# EAGLE library part THERMISTOR_EXPANSION (library Battery)
Thermistor Expansion for Orion BMS 2
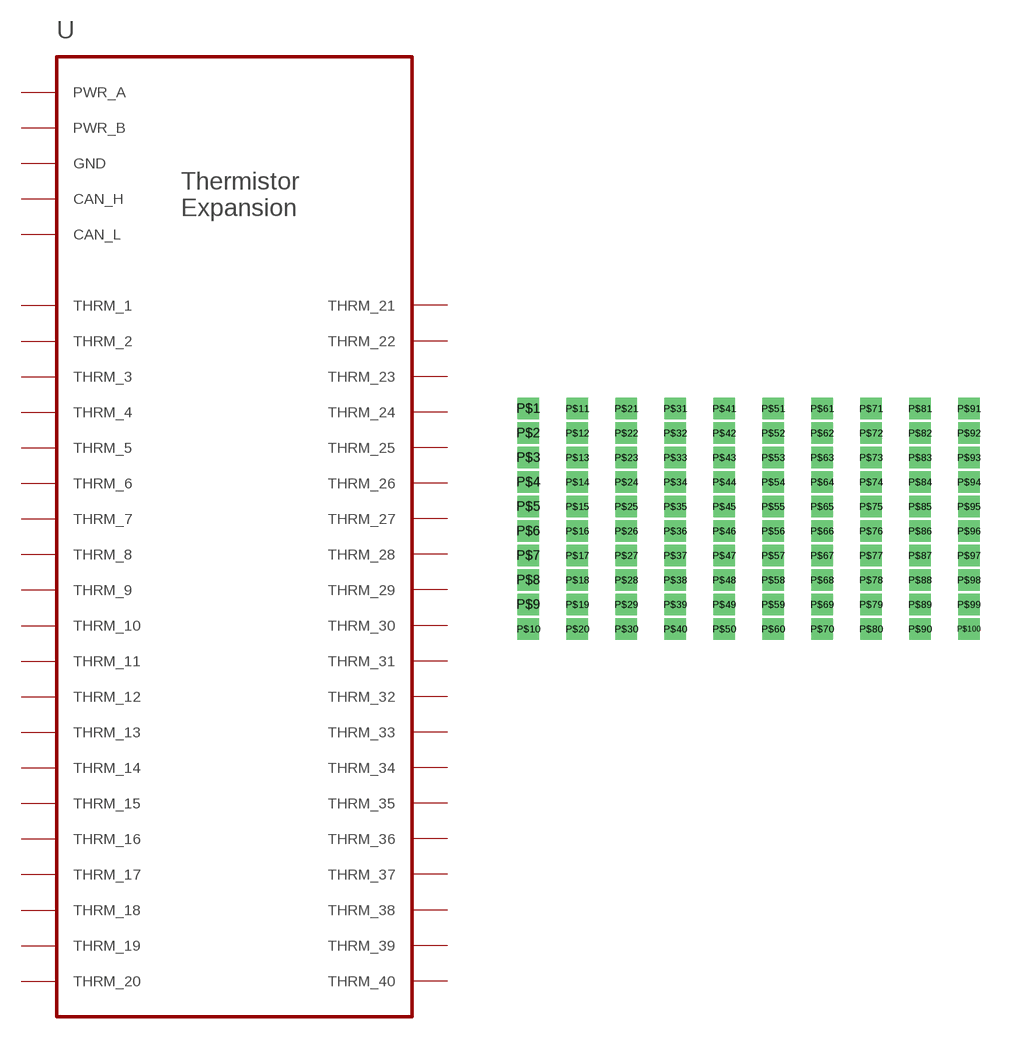
[diagram p1: symbol with the pads of GNERIC_PADS; footprint GNERIC_PADS]

Designator prefix -

## THERMISTOR_EXPANSIONORION_THERMISTOR_EXPANSION  [GNERIC_PADS]
P$1  CAN_H
P$2  CAN_L
P$3  GND
P$4  PWR_A
P$5  PWR_B
P$6  THRM_1
P$7  THRM_2
P$8  THRM_3
P$9  THRM_4
P$10  THRM_5
P$11  THRM_6
P$12  THRM_7
P$13  THRM_8
P$14  THRM_9
P$15  THRM_10
P$16  THRM_11
P$17  THRM_12
P$18  THRM_13
P$19  THRM_14
P$20  THRM_15
P$21  THRM_16
P$22  THRM_17
P$23  THRM_18
P$24  THRM_19
P$25  THRM_20
P$26  THRM_21
P$27  THRM_22
P$28  THRM_23
P$29  THRM_24
P$30  THRM_25
P$31  THRM_26
P$32  THRM_27
P$33  THRM_28
P$34  THRM_29
P$35  THRM_30
P$36  THRM_31
P$37  THRM_32
P$38  THRM_33
P$39  THRM_34
P$40  THRM_35
P$41  THRM_36
P$42  THRM_37
P$43  THRM_38
P$44  THRM_39
P$45  THRM_40

## Footprint GNERIC_PADS (pad centres in mm)
drill 0.6 square: P$1 0,0; P$2 0,-1.27; P$3 0,-2.54; P$4 0,-3.81; P$5 0,-5.08; P$6 0,-6.35; P$7 0,-7.62; P$8 0,-8.89; P$9 0,-10.16; P$10 0,-11.43; P$11 2.54,0; P$12 2.54,-1.27; P$13 2.54,-2.54; P$14 2.54,-3.81; P$15 2.54,-5.08; P$16 2.54,-6.35; P$17 2.54,-7.62; P$18 2.54,-8.89; P$19 2.54,-10.16; P$20 2.54,-11.43; P$21 5.08,0; P$22 5.08,-1.27; P$23 5.08,-2.54; P$24 5.08,-3.81; P$25 5.08,-5.08; P$26 5.08,-6.35; P$27 5.08,-7.62; P$28 5.08,-8.89; P$29 5.08,-10.16; P$30 5.08,-11.43; P$31 7.62,0; P$32 7.62,-1.27; P$33 7.62,-2.54; P$34 7.62,-3.81; P$35 7.62,-5.08; P$36 7.62,-6.35; P$37 7.62,-7.62; P$38 7.62,-8.89; P$39 7.62,-10.16; P$40 7.62,-11.43; P$41 10.16,0; P$42 10.16,-1.27; P$43 10.16,-2.54; P$44 10.16,-3.81; P$45 10.16,-5.08; P$46 10.16,-6.35; P$47 10.16,-7.62; P$48 10.16,-8.89; P$49 10.16,-10.16; P$50 10.16,-11.43; P$51 12.7,0; P$52 12.7,-1.27; P$53 12.7,-2.54; P$54 12.7,-3.81; P$55 12.7,-5.08; P$56 12.7,-6.35; P$57 12.7,-7.62; P$58 12.7,-8.89; P$59 12.7,-10.16; P$60 12.7,-11.43; P$61 15.24,0; P$62 15.24,-1.27; P$63 15.24,-2.54; P$64 15.24,-3.81; P$65 15.24,-5.08; P$66 15.24,-6.35; P$67 15.24,-7.62; P$68 15.24,-8.89; P$69 15.24,-10.16; P$70 15.24,-11.43; P$71 17.78,0; P$72 17.78,-1.27; P$73 17.78,-2.54; P$74 17.78,-3.81; P$75 17.78,-5.08; P$76 17.78,-6.35; P$77 17.78,-7.62; P$78 17.78,-8.89; P$79 17.78,-10.16; P$80 17.78,-11.43; P$81 20.32,0; P$82 20.32,-1.27; P$83 20.32,-2.54; P$84 20.32,-3.81; P$85 20.32,-5.08; P$86 20.32,-6.35; P$87 20.32,-7.62; P$88 20.32,-8.89; P$89 20.32,-10.16; P$90 20.32,-11.43; P$91 22.86,0; P$92 22.86,-1.27; P$93 22.86,-2.54; P$94 22.86,-3.81; P$95 22.86,-5.08; P$96 22.86,-6.35; P$97 22.86,-7.62; P$98 22.86,-8.89; P$99 22.86,-10.16; P$100 22.86,-11.43